# Altium schematic symbol library SCH - POWER - LINEAR VREG - Ricoh R1514HxxxB-T1-FE.Schlib: 1 symbol
Pins are listed as number, name and electrical type; pins without a type are passive.

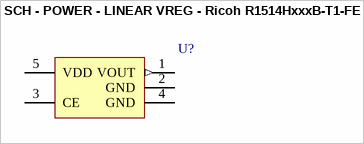
[diagram p0: symbol SCH - POWER - LINEAR VREG - Ricoh R1514HxxxB-T1-FE]

## SCH - POWER - LINEAR VREG - Ricoh R1514HxxxB-T1-FE
designator U?
pins: 1 VOUT (out), 2 GND (power), 3 CE, 4 GND (power), 5 VDD (power)